# EAGLE library part SFH7741 (library GTA04b7)
Proximity Sensor
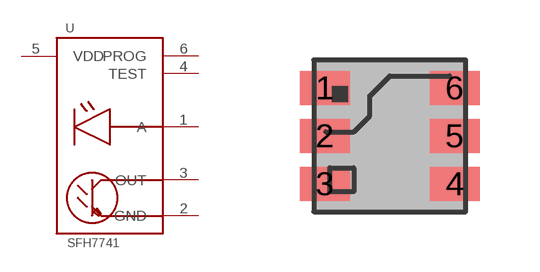
[diagram p37: symbol with the pads of SFH7741; footprint SFH7741]

Designator prefix -

## SFH7741  [SFH7741]
1  A  nc
2  GND  pwr
3  OUT  oc
4  TEST  pas
5  VDD  pwr
6  PROG  pas

## Footprint SFH7741 (pad centres in mm)
Osram SFH7741 Proximity Sensor
smd 1.25 x 0.85: 1 -1.625,1.2; 2 -1.625,0; 3 -1.625,-1.2; 4 1.625,-1.2; 5 1.625,0; 6 1.625,1.2